# Altium footprint library to-247-2_vertical.PcbLib: 1 footprints
Each footprint in its own frame and in the unit in brackets; x right, y up, seen from the top. Pads: shape width x height; smd on the part's side, far side on the other; paste and mask are expansions set on the pad; w line width, h text height; cw(c..) or ccw(c..) is an arc to the next point about the centre after c.
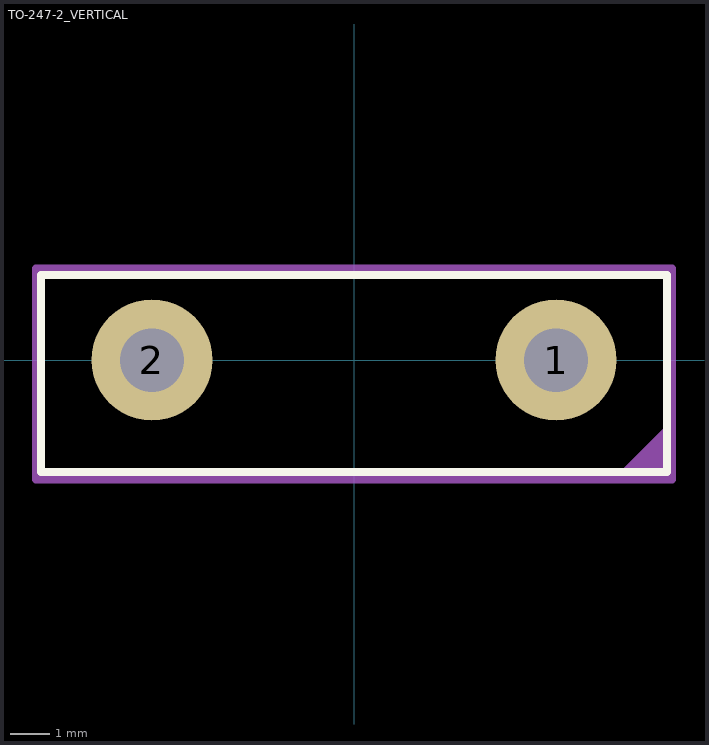
[diagram p0: the footprint, top view; thin cyan lines are the x and y axes]

## TO-247-2_VERTICAL [mil]
pads (2):
  round 120 hole 62.99: 1(200,0) 2(-200,0)
Top Overlay:
  lines w7.87: -310.04,-110.83 310.04,-110.83 310.04,84.06 -310.04,84.06 -310.04,-110.83
Top 3D Body:
  lines w7.87: -310.04,-110.83 310.04,-110.83 310.04,84.06 -310.04,84.06 -310.04,-110.83
Top Courtyard:
  region: 314.96,-118.11 314.96,-59.06 255.91,-118.11
  lines w7.87: -314.96,-118.11 -314.96,90.55 314.96,90.55 314.96,-118.11 -314.96,-118.11
Top Designator (Mech17):
  text ".Designator" at -90,-16.67 h40
3D body "TEH100M10R0FE.step": height 965.46, standoff -479.81, extent -310.04,-110.83 310.04,84.06